# Altium schematic symbol library lesson2.SchLib: 5 symbols
Pins are listed as number, name and electrical type; pins without a type are passive.

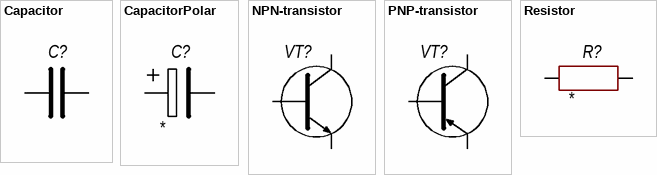
[diagram p0: symbols Capacitor to Resistor]

## Capacitor
designator C?
Model: *
footprint K10-17
footprint K73-17
pins: 1, 2

## CapacitorPolar
designator C?
HelpURL: *; Value: *; Manufacture: *; ComponentKind: *; Model: *
footprint K50-35(5X11)
footprint K50-35(8X11.5)
pins: 1, 2

## NPN-transistor
designator VT?  (value not drawn)
footprint KT315
footprint KT818
pins: 1, 2, 3

## PNP-transistor
designator VT?  (value not drawn)
footprint KT315
footprint KT818
pins: 1, 2, 3

## Resistor
designator R?
Model: *; Manufacture: *; HelpURL: *; ComponentKind: *; Value: *
footprint CF-100
pins: 1, 2